# Altium footprint library Jacdac.PcbLib: 5 footprints
Each footprint in its own frame and in the unit in brackets; x right, y up, seen from the top. Pads: shape width x height; smd on the part's side, far side on the other; paste and mask are expansions set on the pad; w line width, h text height; cw(c..) or ccw(c..) is an arc to the next point about the centre after c.
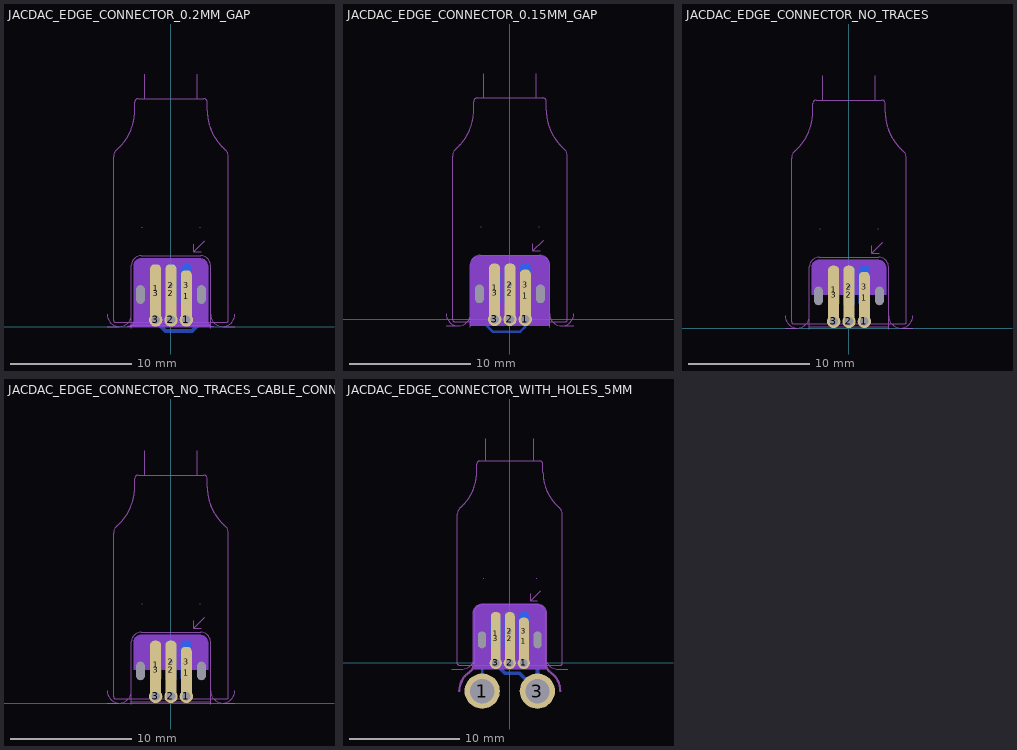
[diagram p0: the footprints below, top view; thin cyan lines are the x and y axes]

## JACDAC_EDGE_CONNECTOR_0.2MM_GAP [mm] "Jacdac 3 pin connector with traces for 0.2mm gap"
pads (11):
  rrect78% 0.9x2.95 smd far side paste-1 mask+0: 1(-1.27,3.175)
  round 1.11 / inner round 0.71 / far side round 1.1 hole 0.71 paste-0.254 mask+0: 1(1.27,0.55) 2(0,0.55) 3(-1.27,0.55)
  rrect78% 0.9x4.3 smd paste-1 mask+0: 1(1.27,2.5)
  rrect78% 0.9x4.8 smd paste-1 mask+0: 2(0,2.75) 3(-1.27,2.75)
  rrect78% 0.9x3.45 smd far side paste-1 mask+0: 2(0,3.425) 3(1.27,3.425)
  round 0 hole 0.7 slot 1.5 at 90 deg unplated: ""(-2.52,2.65) ""(2.52,2.65)
via 0,3.425 diameter 0.6 hole 0.3
Top Layer keep-out:
  region: -3.663,0 -3.598,0.01 -3.472,0.05 -3.357,0.114 -3.257,0.198 -3.174,0.301 -3.114,0.418 -3.077,0.544 -3.066,0.675 -3.07,0.741 -3.07,5.033 -3.07,5.155 -2.976,5.382 -2.802,5.556 -2.575,5.65 -2.453,5.65 2.27,5.65 2.339,5.66 2.478,5.652 2.613,5.618 2.739,5.557 2.85,5.474 2.943,5.37 3.014,5.25 3.06,5.119 3.07,5.05 3.061,0.495 3.07,0.399 3.144,0.22 3.281,0.083 3.459,0.009 3.556,0
  region: -3.663,0 -3.598,0.01 -3.472,0.05 -3.357,0.114 -3.257,0.198 -3.174,0.301 -3.114,0.418 -3.077,0.544 -3.066,0.675 -3.07,0.741 -3.07,5.033 -3.07,5.155 -2.976,5.382 -2.802,5.556 -2.575,5.65 -2.453,5.65 2.27,5.65 2.339,5.66 2.478,5.652 2.613,5.618 2.739,5.557 2.85,5.474 2.943,5.37 3.014,5.25 3.06,5.119 3.07,5.05 3.061,0.495 3.07,0.399 3.144,0.22 3.281,0.083 3.459,0.009 3.556,0
Bottom Layer:
  lines w0.2: -1.307,2.167 -0.54,1.4 0.426,1.4 1.126,0.7 ; -1.27,0.85 -1.126,0.85 ; -1.067,2.077 -1.067,2.153
  lines w0.34: -1.27,0.454 -0.457,-0.359 1.753,-0.359 2.21,0.098 2.21,1.165 1.283,2.092
Bottom Layer keep-out:
  region: -3.731,0 -3.611,0.002 -3.384,0.074 -3.201,0.229 -3.092,0.441 -3.07,0.559 -3.07,5.033 -3.07,5.155 -2.976,5.382 -2.802,5.556 -2.575,5.65 -2.453,5.65 2.27,5.65 2.339,5.66 2.478,5.652 2.613,5.618 2.739,5.557 2.85,5.474 2.943,5.37 3.014,5.25 3.06,5.119 3.07,5.05 3.07,0.487 3.079,0.392 3.152,0.216 3.286,0.082 3.462,0.009 3.557,0
Fab Notes:
  lines w0.1: -2.47,5.85 2.47,5.85 ; 1.9,6.8 1.9,6.2 ; 2.5,6.2 1.9,6.2 ; 2.8,7.1 1.9,6.2
  text "optionally bevel/chamfer  / edge of PCB here" at 3,7 h1.7
Alignment:
  lines w0.1: -5.27,0 -4.27,0 ; -5.27,1 ccw(c-4.27,1) -4.27,0 ; -3.27,-0.122 -3.27,1.003 ; 3.27,-0.122 3.27,1.003 ; 5.27,0 4.27,0 ; 5.27,1 cw(c4.27,1) 4.27,0 ; -4.27,0 ccw(c-4.27,1) -3.27,1 -3.27,5.05 cw(c-2.47,5.05) -2.47,5.85 2.47,5.85 cw(c2.47,5.05) 3.27,5.05 3.27,1 ccw(c4.27,1) 4.27,0
  text "board outline  / for 'outie'" at 5.14,0.864 h1.2
  text "board outline  / for 'innie'" at 4.53,-1.981 h1.2
Reference:
  drawing of 394 lines, arcs and shapes, not listed
  text "Jacdac  / cable connector  / body" at -4.821,10.008 h1.7
Top Courtyard (Mech17):
  lines w0.1: -3.27,0.096 -3.27,1.003 ; -3.27,1 -3.27,5.05 cw(c-2.47,5.05) -2.47,5.85 2.47,5.85 cw(c2.47,5.05) 3.27,5.05 3.27,1 ; -3.264,0.096 3.264,0.096 ; 3.27,0.096 3.27,1.003
  text "board outline  / for 'outie'" at 5.14,0.864 h1.2
Bottom Courtyard (Mech18):
  lines w0.1: -3.27,0.096 -3.27,1.003 ; -3.27,1 -3.27,5.05 cw(c-2.47,5.05) -2.47,5.85 2.47,5.85 cw(c2.47,5.05) 3.27,5.05 3.27,1 ; -3.264,0.096 3.264,0.096 ; 3.27,0.096 3.27,1.003

## JACDAC_EDGE_CONNECTOR_0.15MM_GAP [mm] "Jacdac 3 pin connector with traces for 0.15mm gap"
pads (11):
  rrect78% 0.9x2.95 smd far side paste-1 mask+0: 1(-1.27,2.625)
  round 1.11 / inner round 0.71 / far side round 1.1 hole 0.71 paste-0.254 mask+0: 1(1.27,0) 2(0,0) 3(-1.27,0)
  rrect78% 0.9x4.3 smd paste-1 mask+0: 1(1.27,1.95)
  rrect78% 0.9x4.8 smd paste-1 mask+0: 2(0,2.2) 3(-1.27,2.2)
  rrect78% 0.9x3.45 smd far side paste-1 mask+0: 2(0,2.875) 3(1.27,2.875)
  round 0 hole 0.7 slot 1.5 at 90 deg unplated: ""(-2.52,2.1) ""(2.52,2.1)
via 0,2.875 diameter 0.6 hole 0.3
Top Layer keep-out:
  region: -3.27,-0.55 -3.27,4.5 -3.27,4.579 -3.239,4.733 -3.179,4.879 -3.091,5.01 -2.98,5.121 -2.849,5.209 -2.703,5.269 -2.549,5.3 -2.47,5.3 2.47,5.3 2.549,5.3 2.703,5.269 2.849,5.209 2.98,5.121 3.091,5.01 3.179,4.879 3.239,4.733 3.27,4.579 3.27,4.5 3.27,-0.55
Bottom Layer:
  lines w0.2: -1.27,2.625 -1.27,1.513 -2.159,0.624 -2.159,-0.305 -1.448,-1.016 0.254,-1.016 0.854,-1.016 1.27,-0.6 1.27,0
  lines w0.3: -1.27,0 -1.27,0.55 -0.965,0.855 0.713,0.855 1.27,1.412 1.27,2.875
Bottom Layer keep-out:
  region: -3.27,-0.55 -3.27,4.5 -3.27,4.579 -3.239,4.733 -3.179,4.879 -3.091,5.01 -2.98,5.121 -2.849,5.209 -2.703,5.269 -2.549,5.3 -2.47,5.3 2.47,5.3 2.549,5.3 2.703,5.269 2.849,5.209 2.98,5.121 3.091,5.01 3.179,4.879 3.239,4.733 3.27,4.579 3.27,4.5 3.27,-0.55
Fab Notes:
  lines w0.1: -2.47,5.3 2.47,5.3 ; 1.9,6.25 1.9,5.65 ; 2.5,5.65 1.9,5.65 ; 2.8,6.55 1.9,5.65
  text "optionally bevel/chamfer  / edge of PCB here" at 3,6.45 h1.7
Alignment:
  lines w0.1: -5.27,-0.55 -4.27,-0.55 ; -5.27,0.45 ccw(c-4.27,0.45) -4.27,-0.55 ; -3.27,-0.675 -3.27,0.45 ; 3.27,-0.675 3.27,0.45 ; 5.27,-0.55 4.27,-0.55 ; 5.27,0.45 cw(c4.27,0.45) 4.27,-0.55 ; -4.27,-0.55 ccw(c-4.27,0.45) -3.27,0.45 ; -3.27,0.45 -3.27,4.5 cw(c-2.47,4.5) -2.47,5.3 2.47,5.3 cw(c2.47,4.5) 3.27,4.5 3.27,0.45 ; 3.27,0.45 ccw(c4.27,0.45) 4.27,-0.55
  text "board outline  / for 'innie'" at 4.53,-2.531 h1.2
  text "board outline  / for 'outie'" at 5.14,0.314 h1.2
Reference:
  drawing of 394 lines, arcs and shapes, not listed
  text "Jacdac  / cable connector  / body" at -4.821,9.458 h1.7
Top Courtyard (Mech17):
  lines w0.1: -3.27,-0.454 -3.27,0.453 ; -3.27,0.45 -3.27,4.5 cw(c-2.47,4.5) -2.47,5.3 2.47,5.3 cw(c2.47,4.5) 3.27,4.5 3.27,0.45 ; -3.264,-0.454 3.264,-0.454 ; 3.27,-0.454 3.27,0.453
Bottom Courtyard (Mech18):
  lines w0.1: -3.27,-0.454 -3.27,0.453 ; -3.27,0.45 -3.27,4.5 cw(c-2.47,4.5) -2.47,5.3 2.47,5.3 cw(c2.47,4.5) 3.27,4.5 3.27,0.45 ; -3.264,-0.454 3.264,-0.454 ; 3.27,-0.454 3.27,0.453
3D body "MSRC JACDAC Cable Connector.step": height 1.53, standoff -3.12, extent -4.75,-0.184 4.75,20.316

## JACDAC_EDGE_CONNECTOR_NO_TRACES [mm] "Jacdac 3 pin connector with no traces"
pads (11):
  rrect78% 0.9x2.95 smd far side paste-1 mask+0: 1(-1.27,3.175)
  round 1.11 / inner round 0.71 / far side round 1.1 hole 0.71 paste-0.254 mask+0: 1(1.27,0.55) 2(0,0.55) 3(-1.27,0.55)
  rrect78% 0.9x4.3 smd paste-1 mask+0: 1(1.27,2.5)
  rrect78% 0.9x4.8 smd paste-1 mask+0: 2(0,2.75) 3(-1.27,2.75)
  rrect78% 0.9x3.45 smd far side paste-1 mask+0: 2(0,3.425) 3(1.27,3.425)
  round 0 hole 0.7 slot 1.5 at 90 deg unplated: ""(-2.52,2.65) ""(2.52,2.65)
via 0,3.425 diameter 0.6 hole 0.3
Top Layer keep-out:
  region: -3.075,2.75 -3.07,5.033 -3.07,5.155 -2.976,5.382 -2.802,5.556 -2.575,5.65 -2.453,5.65 2.27,5.65 2.339,5.66 2.478,5.652 2.613,5.618 2.739,5.557 2.85,5.474 2.943,5.37 3.014,5.25 3.06,5.119 3.07,5.05 3.07,2.75
Bottom Layer:
  lines w0.2: -1.27,0.85 -1.126,0.85
Bottom Layer keep-out:
  region: -3.07,2.75 -3.07,5.033 -3.07,5.155 -2.976,5.382 -2.802,5.556 -2.575,5.65 -2.453,5.65 2.27,5.65 2.339,5.66 2.478,5.652 2.613,5.618 2.739,5.557 2.85,5.474 2.943,5.37 3.014,5.25 3.06,5.119 3.07,5.05 3.07,2.75
Fab Notes:
  lines w0.1: -2.47,5.85 2.47,5.85 ; 1.9,6.8 1.9,6.2 ; 2.5,6.2 1.9,6.2 ; 2.8,7.1 1.9,6.2
  text "optionally bevel/chamfer  / edge of PCB here" at 3,7 h1.7
Alignment:
  lines w0.1: -5.27,0 -4.27,0 ; -5.27,1 ccw(c-4.27,1) -4.27,0 ; -3.27,-0.122 -3.27,1.003 ; 3.27,-0.122 3.27,1.003 ; 5.27,0 4.27,0 ; 5.27,1 cw(c4.27,1) 4.27,0 ; -4.27,0 ccw(c-4.27,1) -3.27,1 -3.27,5.05 cw(c-2.47,5.05) -2.47,5.85 2.47,5.85 cw(c2.47,5.05) 3.27,5.05 3.27,1 ccw(c4.27,1) 4.27,0
  text "board outline  / for 'outie'" at 5.14,0.864 h1.2
  text "board outline  / for 'innie'" at 4.53,-1.981 h1.2
Reference:
  drawing of 394 lines, arcs and shapes, not listed
  text "Jacdac / cable connector  / body" at -4.821,10.008 h1.7
Top Courtyard (Mech17):
  lines w0.1: -3.27,0.096 -3.27,1.003 ; -3.27,1 -3.27,5.05 cw(c-2.47,5.05) -2.47,5.85 2.47,5.85 cw(c2.47,5.05) 3.27,5.05 3.27,1 ; -3.264,0.096 3.264,0.096 ; 3.27,0.096 3.27,1.003
Bottom Courtyard (Mech18):
  lines w0.1: -3.27,0.096 -3.27,1.003 ; -3.27,1 -3.27,5.05 cw(c-2.47,5.05) -2.47,5.85 2.47,5.85 cw(c2.47,5.05) 3.27,5.05 3.27,1 ; -3.264,0.096 3.264,0.096 ; 3.27,0.096 3.27,1.003

## JACDAC_EDGE_CONNECTOR_NO_TRACES_CABLE_CONNECTOR [mm] "Jacdac 3 pin connector with no traces but with plastic connector body"
pads (11):
  rrect78% 0.9x2.95 smd far side paste-1 mask+0: 1(-1.27,3.175)
  round 1.11 / inner round 0.71 / far side round 1.1 hole 0.71 paste-0.254 mask+0: 1(1.27,0.55) 2(0,0.55) 3(-1.27,0.55)
  rrect78% 0.9x4.3 smd paste-1 mask+0: 1(1.27,2.5)
  rrect78% 0.9x4.8 smd paste-1 mask+0: 2(0,2.75) 3(-1.27,2.75)
  rrect78% 0.9x3.45 smd far side paste-1 mask+0: 2(0,3.425) 3(1.27,3.425)
  round 0 hole 0.7 slot 1.5 at 90 deg unplated: ""(-2.52,2.65) ""(2.52,2.65)
via 0,3.425 diameter 0.6 hole 0.3
Top Layer keep-out:
  region: -3.075,2.75 -3.07,5.033 -3.07,5.155 -2.976,5.382 -2.802,5.556 -2.575,5.65 -2.453,5.65 2.27,5.65 2.339,5.66 2.478,5.652 2.613,5.618 2.739,5.557 2.85,5.474 2.943,5.37 3.014,5.25 3.06,5.119 3.07,5.05 3.07,2.75
Bottom Layer:
  lines w0.2: -1.27,0.85 -1.126,0.85
Bottom Layer keep-out:
  region: -3.07,2.75 -3.07,5.033 -3.07,5.155 -2.976,5.382 -2.802,5.556 -2.575,5.65 -2.453,5.65 2.27,5.65 2.339,5.66 2.478,5.652 2.613,5.618 2.739,5.557 2.85,5.474 2.943,5.37 3.014,5.25 3.06,5.119 3.07,5.05 3.07,2.75
Fab Notes:
  lines w0.1: -2.47,5.85 2.47,5.85 ; 1.9,6.8 1.9,6.2 ; 2.5,6.2 1.9,6.2 ; 2.8,7.1 1.9,6.2
  text "optionally bevel/chamfer  / edge of PCB here" at 3,7 h1.7
Alignment:
  lines w0.1: -5.27,0 -4.27,0 ; -5.27,1 ccw(c-4.27,1) -4.27,0 ; -3.27,-0.122 -3.27,1.003 ; 3.27,-0.122 3.27,1.003 ; 5.27,0 4.27,0 ; 5.27,1 cw(c4.27,1) 4.27,0 ; -4.27,0 ccw(c-4.27,1) -3.27,1 -3.27,5.05 cw(c-2.47,5.05) -2.47,5.85 2.47,5.85 cw(c2.47,5.05) 3.27,5.05 3.27,1 ccw(c4.27,1) 4.27,0
  text "board outline  / for 'innie'" at 4.53,-1.981 h1.2
  text "board outline  / for 'outie'" at 5.14,0.864 h1.2
Reference:
  drawing of 394 lines, arcs and shapes, not listed
  text "Jacdac / cable connector  / body" at -4.821,10.008 h1.7
Top Courtyard (Mech17):
  lines w0.1: -3.27,0.096 -3.27,1.003 ; -3.27,1 -3.27,5.05 cw(c-2.47,5.05) -2.47,5.85 2.47,5.85 cw(c2.47,5.05) 3.27,5.05 3.27,1 ; -3.264,0.096 3.264,0.096 ; 3.27,0.096 3.27,1.003
Bottom Courtyard (Mech18):
  lines w0.1: -3.27,0.096 -3.27,1.003 ; -3.27,1 -3.27,5.05 cw(c-2.47,5.05) -2.47,5.85 2.47,5.85 cw(c2.47,5.05) 3.27,5.05 3.27,1 ; -3.264,0.096 3.264,0.096 ; 3.27,0.096 3.27,1.003
3D body "MSRC JACDAC Cable Connector.step": height 1.53, standoff -3.12, extent -4.75,0.366 4.75,20.866

## JACDAC_EDGE_CONNECTOR_WITH_HOLES_5MM [mm] "Jacdac 3 pin connector with two mounting holes (deprecated0"
pads (13):
  round 3.2 hole 2.2: 1(-2.5,-2.55) 3(2.5,-2.55)
  rrect78% 0.9x2.95 smd far side paste-1 mask+0: 1(-1.27,2.625)
  round 1.11 / inner round 0.71 / far side round 1.1 hole 0.71 paste-0.254 mask+0: 1(1.27,0) 2(0,0) 3(-1.27,0)
  rrect78% 0.9x4.3 smd paste-1 mask+0: 1(1.27,1.95)
  rrect78% 0.9x4.8 smd paste-1 mask+0: 2(0,2.2) 3(-1.27,2.2)
  rrect78% 0.9x3.45 smd far side paste-1 mask+0: 2(0,2.875) 3(1.27,2.875)
  round 0 hole 0.7 slot 1.5 at 90 deg unplated: ""(-2.52,2.1) ""(2.52,2.1)
via 0,2.875 diameter 0.6 hole 0.3
Top Layer keep-out:
  region: -3.27,-0.55 -3.27,4.5 -3.27,4.579 -3.239,4.733 -3.179,4.879 -3.091,5.01 -2.98,5.121 -2.849,5.209 -2.703,5.269 -2.549,5.3 -2.47,5.3 2.47,5.3 2.549,5.3 2.703,5.269 2.849,5.209 2.98,5.121 3.091,5.01 3.179,4.879 3.239,4.733 3.27,4.579 3.27,4.5 3.27,-0.55
Bottom Layer:
  lines w0.2: -2.5,-2.55 -2.5,0.475 -1.85,1.125 ; -1.307,1.617 -0.54,0.85 0.426,0.85 1.126,0.15 ; -1.275,2.625 -1.275,1.7 -1.85,1.125 ; -1.27,0.3 -1.126,0.3 ; -1.85,1.125 -1.85,1.125
  lines w0.34: -1.27,-0.096 -0.457,-0.909 ; -0.441,-0.925 0.875,-0.925 ; 0.863,-0.925 0.875,-0.925 ; 1.325,2.9 1.325,1.475 2.5,0.3 2.5,-2.55 ; 2.413,-2.591 2.515,-2.591 ; 2.487,-2.55 2.5,-2.55 ; 0.875,-0.925 2.5,-2.55
Bottom Layer keep-out:
  region: -3.27,-0.55 -3.27,4.5 -3.27,4.579 -3.239,4.733 -3.179,4.879 -3.091,5.01 -2.98,5.121 -2.849,5.209 -2.703,5.269 -2.549,5.3 -2.47,5.3 2.47,5.3 2.549,5.3 2.703,5.269 2.849,5.209 2.98,5.121 3.091,5.01 3.179,4.879 3.239,4.733 3.27,4.579 3.27,4.5 3.27,-0.55
Fab Notes:
  lines w0.1: -2.47,5.3 2.47,5.3 ; 1.9,6.25 1.9,5.65 ; 2.5,5.65 1.9,5.65 ; 2.8,6.55 1.9,5.65
  text "optionally bevel/chamfer  / edge of PCB here" at 3,6.45 h1.7
Alignment:
  lines w0.1: -5.27,-0.55 -4.27,-0.55 ccw(c-4.27,0.45) -3.27,0.45 ; 3.27,0.45 ccw(c4.27,0.45) 4.27,-0.55 5.27,-0.55
  lines w0.2: -4.573,-2.55 cw(c-2.5,-2.55) -3.725,-0.877 ccw(c-4.27,-0.039) -3.27,-0.039 -3.27,4.5 cw(c-2.47,4.5) -2.47,5.3 2.47,5.3 cw(c2.47,4.5) 3.27,4.5 3.27,-0.039 ccw(c4.27,-0.039) 3.725,-0.877 cw(c2.5,-2.55) 4.574,-2.55
Reference:
  drawing of 394 lines, arcs and shapes, not listed
  text "Jacdac / cable connector  / body" at -4.821,9.458 h1.7
Top Courtyard (Mech17):
  lines w0.1: -3.27,-0.454 -3.27,0.453 ; -3.27,0.45 -3.27,4.5 cw(c-2.47,4.5) -2.47,5.3 2.47,5.3 cw(c2.47,4.5) 3.27,4.5 3.27,0.45 ; -3.264,-0.454 3.264,-0.454 ; 3.27,-0.454 3.27,0.453
Bottom Courtyard (Mech18):
  lines w0.1: -3.27,-0.454 -3.27,0.453 ; -3.27,0.45 -3.27,4.5 cw(c-2.47,4.5) -2.47,5.3 2.47,5.3 cw(c2.47,4.5) 3.27,4.5 3.27,0.45 ; -3.264,-0.454 3.264,-0.454 ; 3.27,-0.454 3.27,0.453